# Altium schematic symbol library CAP-POLAR_Hitano.SchLib: 1 symbol
Pins are listed as number, name and electrical type; pins without a type are passive.

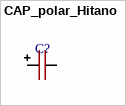
[diagram p0: symbol CAP_polar_Hitano]

## CAP_polar_Hitano
designator C?, comment 1000uF_50V  (value not drawn)
footprint CAP_POL_13x26_1000uF_50V
footprint CAP_50V_2200uF
footprint HITANO 3300uF 25V EHR105
footprint CAP_25V_2200uF
footprint CAP_1000uF_50V
pins: 1 +, 2 -